# Altium footprint library PLS-PLD.PcbLib: 10 footprints
Each footprint in its own frame and in the unit in brackets; x right, y up, seen from the top. Pads: shape width x height; smd on the part's side, far side on the other; paste and mask are expansions set on the pad; w line width, h text height; cw(c..) or ccw(c..) is an arc to the next point about the centre after c.
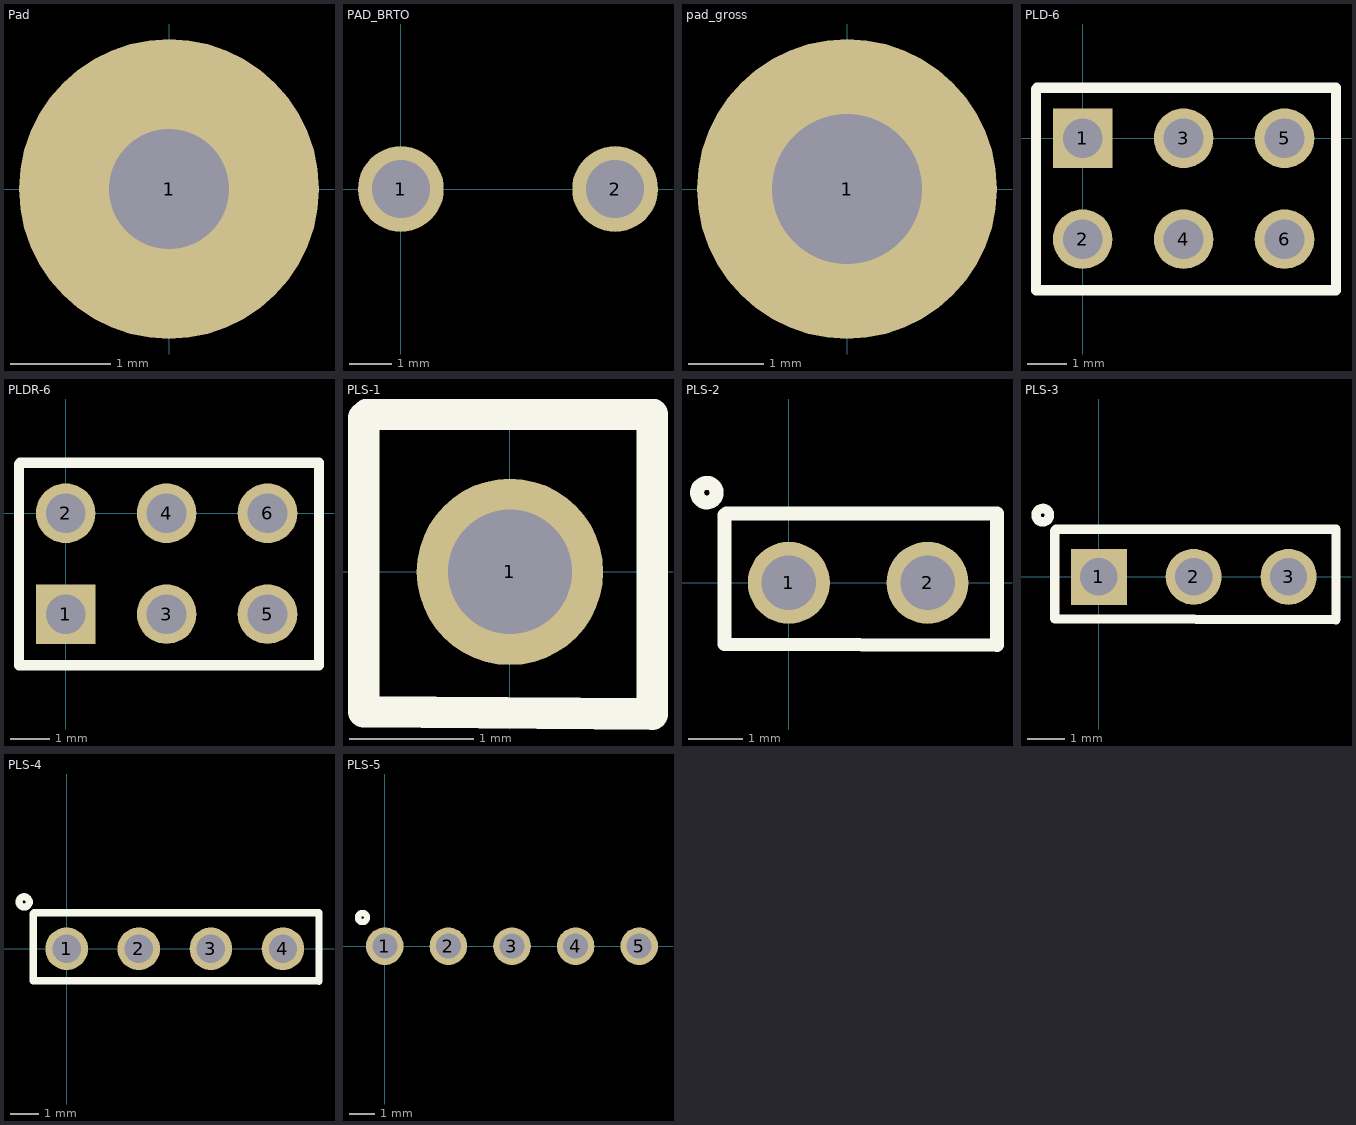
[diagram p0: the footprints below, top view; thin cyan lines are the x and y axes]

## Pad [mm]
pads (1):
  round 3 hole 1.2: 1(0,0)

## PAD_BRTO [mm]
pads (2):
  round 2 hole 1.35: 1(0,0) 2(5,0)

## pad_gross [mm]
pads (1):
  round 4 hole 2: 1(0,0)

## PLD-6 [mm]
pads (6):
  rect 1.5x1.5 hole 1: 1(0,0)
  round 1.5 hole 1: 2(0,-2.54) 3(2.54,0) 4(2.54,-2.54) 5(5.08,0) 6(5.08,-2.54)
Top Overlay:
  lines w0.254: -1.175,-3.825 6.375,-3.825 6.375,1.27 -1.145,1.27 -1.175,1.24 -1.175,-3.825
3D body "DS1021_yellow_3x02p_100mil_Type1_rev1.0.STEP": height 8.55, standoff -3, extent -1.27,-3.81 6.35,1.27

## PLDR-6 [mm] "PLDR-6"
pads (6):
  rect 1.5x1.5 hole 1: 1(0,-2.54)
  round 1.5 hole 1: 2(0,0) 3(2.54,-2.54) 4(2.54,0) 5(5.08,-2.54) 6(5.08,0)
Top Overlay:
  lines w0.254: -1.175,-3.825 -1.175,1.24 -1.145,1.27 6.375,1.27 6.375,-3.825 -1.175,-3.825
3D body "PLD-6RD_(DS1022_CONNFLY).stp": height 1.5, standoff -6.58, extent -1.27,-2.894 6.35,10.006

## PLS-1 [mm]
pads (1):
  round 1.5 hole 1: 1(0,0)
Top Overlay:
  lines w0.254: -1.175,-1.125 1.143,-1.143 1.143,1.27 -1.145,1.27 -1.175,1.24 -1.175,-1.125
3D body "DS1021_blue_1x01p_100mil_Type1_rev1.0.STEP": height 8.55, standoff -3, extent -1.27,-1.25 1.27,1.25

## PLS-2 [mm]
pads (2):
  round 1.5 hole 1: 1(0,0) 2(2.54,0)
Top Overlay:
  circle w0.254: c-1.5,1.65 r0.18
  lines w0.254: -1.175,-1.125 -1.175,1.24 -1.145,1.27 3.81,1.27 3.81,-1.143 -1.175,-1.125
3D body "DS1021_yellow_2x01p_100mil_Type1_rev1.0.STEP": height 8.55, standoff -3, extent -1.25,-1.27 3.75,1.27

## PLS-3 [mm]
pads (3):
  rect 1.5x1.5 hole 1: 1(0,0)
  round 1.5 hole 1: 2(2.54,0) 3(5.08,0)
Top Overlay:
  circle w0.254: c-1.5,1.65 r0.18
  lines w0.254: -1.175,-1.125 -1.175,1.24 -1.145,1.27 6.35,1.27 6.35,-1.143 -1.175,-1.125
3D body "DS1021_yellow_1x03p_100mil_Type1_rev1.0.STEP": height 8.55, standoff -3, extent -1.27,-1.25 6.35,1.25

## PLS-4 [mm]
pads (4):
  round 1.5 hole 1: 1(0,0) 2(2.54,0) 3(5.08,0) 4(7.62,0)
Top Overlay:
  circle w0.254: c-1.5,1.65 r0.18
  lines w0.254: 8.872,-1.125 -1.175,-1.125 -1.175,1.24 -1.145,1.27 8.89,1.27 8.89,-1.143
3D body "DS1021_green_1x04p_100mil_Type1_rev1.0.STEP": height 8.55, standoff -3, extent -1.27,-1.25 8.89,1.25

## PLS-5 [mm]
pads (5):
  round 1.5 hole 1: 1(0,0) 2(2.54,0) 3(5.08,0) 4(7.62,0) 5(10.16,0)
Top Overlay:
  circle w0.254: c-0.889,1.143 r0.18